# Altium footprint library TRANS-MM.PcbLib: 63 footprints (part 4 of 4)
Each footprint in its own frame and in the unit in brackets; x right, y up, seen from the top. Pads: shape width x height; smd on the part's side, far side on the other; paste and mask are expansions set on the pad; w line width, h text height; cw(c..) or ccw(c..) is an arc to the next point about the centre after c.
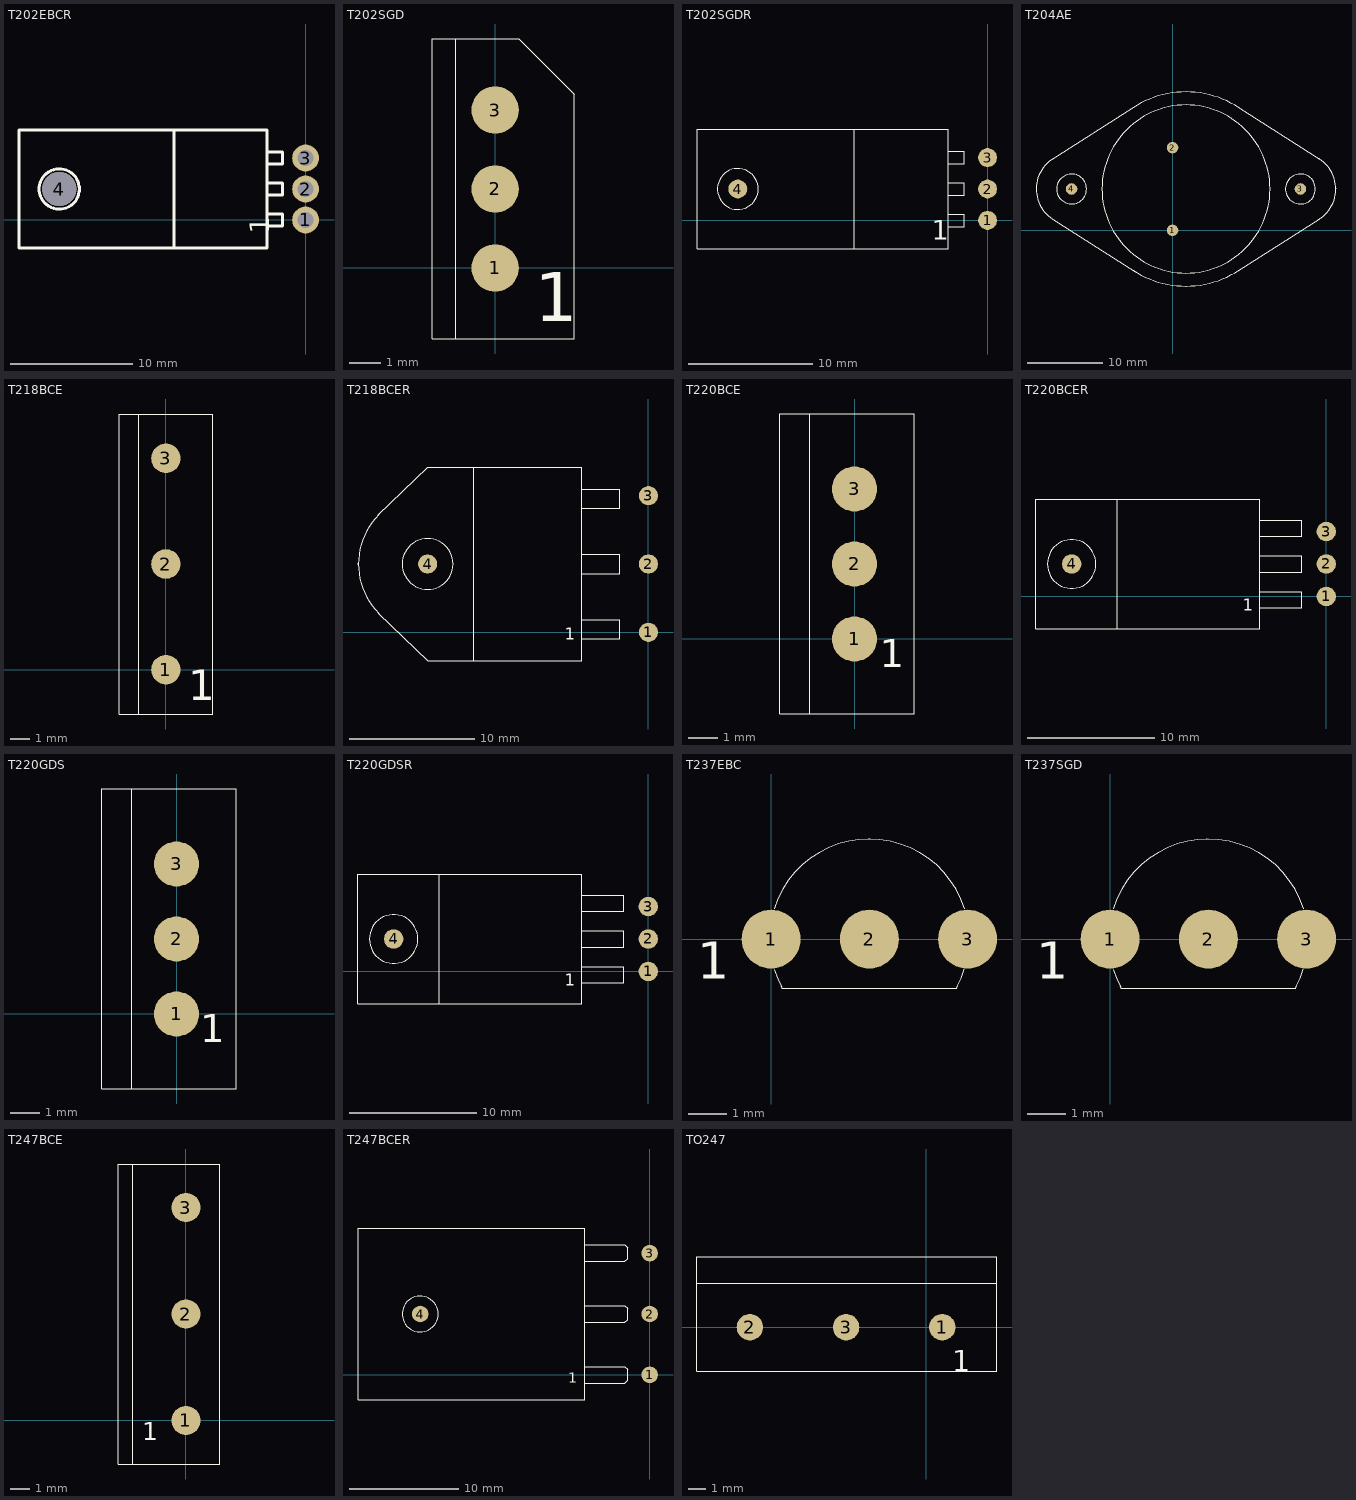
[diagram p3: the footprints below, top view; thin cyan lines are the x and y axes]

## T202EBCR [mm]
pads (4):
  round 2.2 hole 1.3: 1(0,0) 2(0,2.54) 3(0,5.08)
  round 2.8 hole 2.8: 4(-20.193,2.54)
Top Overlay:
  circle w0.25: c-20.193,2.54 r1.651
  lines w0.25: -3.175,-0.508 -1.905,-0.508 -1.905,-0.254 -1.905,0.254 -1.905,0.508 -3.175,0.508 ; -3.175,2.032 -1.905,2.032 -1.905,2.286 -1.905,2.794 -1.905,3.048 -3.175,3.048 ; -3.175,4.572 -1.905,4.572 -1.905,4.826 -1.905,5.334 -1.905,5.588 -3.175,5.588 ; -10.795,-2.286 -3.175,-2.286 -3.175,7.366 -10.795,7.366 ; -10.795,-2.286 -10.795,-0.508 -10.795,5.588 -10.795,7.366 ; -10.795,-2.286 -12.573,-2.286 -23.495,-2.286 -23.495,7.366 -12.573,7.366 -10.795,7.366
  text "1" at -2.984,-1.143 h1.59

## T202SGD [mil]
pads (3):
  round 60 all layers, no hole: 1(0,0) 2(0,100) 3(0,200)
Top Overlay:
  lines w1: -50,-90 -50,290 ; -80,-90 -80,290 30,290 100,220 100,-90 -80,-90
  text "1" at 50,-67.5 h62.5

## T202SGDR [mil]
pads (4):
  round 60 all layers, no hole: 1(0,0) 2(0,100) 3(0,200) 4(-795,100)
Top Overlay:
  circle w1: c-795,100 r65
  lines w1: -125,-20 -75,-20 -75,-10 -75,10 -75,20 -125,20 ; -125,80 -75,80 -75,90 -75,110 -75,120 -125,120 ; -125,180 -75,180 -75,190 -75,210 -75,220 -125,220 ; -425,-90 -125,-90 -125,290 -425,290 ; -425,-90 -425,-20 -425,220 -425,290 ; -425,-90 -495,-90 -925,-90 -925,290 -495,290 -425,290
  text "1" at -177.99,-61.52 h62.5

## T204AE [mil]
pads (4):
  round 60 all layers, no hole: 1(0,0) 2(0,430) 3(665,215) 4(-525,215)
Top Overlay:
  circle w1: c70,215 r437
  circle w1: c665,215 r78
  circle w1: c-525,215 r78
  lines w1: -710,215 -710,216 ; -626,370 -201,641 ; -623,58 -195,-215 ; -622.97,58.82 cw(c-525,215) -619.95,373.03 ; -204.79,-208.14 ccw(c70,215) 345.53,-207.66 ; -204.79,638.14 cw(c70,215) 345.53,637.66 ; 68,720 69,720 ; 69,-290 70,-290 ; 341,641 766,370 ; 343,-210 763,58 ; 760.23,57.14 ccw(c665,215) 763.24,371 ; 850,217 850,218

## T218BCE [mil]
pads (3):
  round 60 all layers, no hole: 1(0,0) 2(0,215) 3(0,430)
Top Overlay:
  lines w1: -55,-90 -55,520 ; -95,-90 95,-90 95,520 -95,520 -95,0 -95,-90
  text "1" at 45,-62.5 h62.5

## T218BCER [mil]
pads (4):
  round 60 all layers, no hole: 1(0,0) 2(0,215) 3(0,430) 4(-695,215)
Top Overlay:
  circle w1: c-695,215 r80
  lines w1: -914,212 -914,217 ; -850,60 -695,-90 -210,-90 -210,520 -695,520 -850,370 ; -848.73,60.73 cw(c-695,215) -848.73,369.27 ; -550,-90 -550,520 ; -210,-20 -90,-20 -90,25 -90,40 -210,40 ; -210,185 -90,185 -90,195 -90,235 -90,245 -210,245 ; -210,390 -90,390 -90,405 -90,450 -210,450
  text "1" at -263,-23.5 h37.5
Mechanical 1:
  text "TO-218" at -508,169 h37.5

## T220BCE [mil]
pads (3):
  round 60 all layers, no hole: 1(0,0) 2(0,100) 3(0,200)
Top Overlay:
  lines w1: -60,-100 -60,300 ; -100,-100 -100,300 80,300 80,-100 -100,-100
  text "1" at 34,-37.5 h37.5
Mechanical 1:
  text "TO-220" at -133,-201 h37.5

## T220BCER [mil]
pads (4):
  round 60 all layers, no hole: 1(0,0) 2(0,100) 3(0,200) 4(-785,100)
Top Overlay:
  circle w1: c-785,100 r75
  lines w1: -205,-35 -75,-35 -75,-15 -75,15 -205,15 ; -205,75 -75,75 -75,85 -75,115 -75,125 -205,125 ; -205,185 -75,185 -75,215 -75,235 -205,235 ; -645,-100 -785,-100 -835,-100 -895,-100 -895,300 -835,300 -785,300 -645,300 ; -645,-100 -645,300 ; -645,-100 -205,-100 -205,300 -645,300
  text "1" at -257,-43.5 h37.5
Mechanical 1:
  text "TO-220" at -553,49 h37.5

## T220GDS [mil]
pads (3):
  round 60 all layers, no hole: 1(0,0) 2(0,100) 3(0,200)
Top Overlay:
  lines w1: -60,-100 -60,300 ; -100,-100 -100,300 80,300 80,-100 -100,-100
  text "1" at 32,-37.5 h37.5
Mechanical 1:
  text "TO-220" at -123,-201 h37.5

## T220GDSR [mil]
pads (4):
  round 60 all layers, no hole: 1(0,0) 2(0,100) 3(0,200) 4(-785,100)
Top Overlay:
  circle w1: c-785,100 r75
  lines w1: -205,-35 -75,-35 -75,-15 -75,15 -205,15 ; -205,75 -75,75 -75,85 -75,115 -75,125 -205,125 ; -205,185 -75,185 -75,215 -75,235 -205,235 ; -645,-100 -785,-100 -835,-100 -895,-100 -895,300 -835,300 -785,300 -645,300 ; -645,-100 -645,300 ; -645,-100 -205,-100 -205,300 -645,300
  text "1" at -258,-44.5 h37.5
Mechanical 1:
  text "TO-220" at -553,49 h37.5

## T237EBC [mil]
pads (3):
  round 60 all layers, no hole: 1(0,0) 2(100,0) 3(200,0)
Top Overlay:
  lines w1: 3.04,-31.13 ccw(c100,0) 10.85,-49.21 ; 3.04,31.13 cw(c100,0) 197.01,30.96 ; 10,-48 11,-50 189,-50 190,-48 ; 99,102 101,102 ; 189.03,-48.94 ccw(c100,0) 196.79,-30.89
  text "1" at -75.5,-40.5 h37.5
Mechanical 1:
  text "TO-237" at -23,-151 h37.5

## T237SGD [mil]
pads (3):
  round 60 all layers, no hole: 1(0,0) 2(100,0) 3(200,0)
Top Overlay:
  lines w1: 3.04,-31.13 ccw(c100,0) 10.85,-49.21 ; 3.04,31.13 cw(c100,0) 197.01,30.96 ; 10,-48 11,-50 189,-50 190,-48 ; 98,102 99,102 ; 189.03,-48.94 ccw(c100,0) 196.79,-30.89
  text "1" at -75.5,-40.5 h37.5
Mechanical 1:
  text "TO-237" at -23,-151 h37.5

## T247BCE [mil]
pads (3):
  round 60 all layers, no hole: 1(0,0) 2(0,220) 3(0,440)
Top Overlay:
  lines w1: -110,-90 -110,530 ; -110,-90 70,-90 70,530 -110,530 ; -110,-90 -140,-90 -140,530 -110,530
  text "1" at -90,-40.5 h37.5
Mechanical 1:
  text "TO-247" at -153,-191 h37.5

## T247BCER [mil]
pads (4):
  round 60 all layers, no hole: 1(0,0) 2(0,220) 3(0,440) 4(-830,220)
Top Overlay:
  circle w1: c-830,220 r65
  lines w1: -235,-30 -90,-30 -80,-20 -80,20 -90,30 -235,30 ; -235,190 -90,190 -80,200 -80,240 -90,250 -235,250 ; -235,410 -90,410 -80,420 -80,460 -90,470 -235,470 ; -1055,-90 -1055,530 -235,530 -235,-90 -1055,-90
  text "1" at -294,-28.5 h37.5
Mechanical 1:
  text "TO-247" at -618,177 h37.5

## TO247 [mil]
pads (3):
  round 60 all layers, no hole: 1(36,0) 2(-400,0) 3(-182,0)
Top Overlay:
  lines w1: -520,100 160,100 ; -520,-100 -520,160 160,160 160,-100 -520,-100
  text "1" at 58.13,-99.45 h46.88
Mechanical 1:
  text "TO247" at -323.28,200.55 h46.88
  text "11423" at -325.62,-209.45 h46.88